# Altium footprint library hi3516dv100.PcbLib: 78 footprints (part 2 of 5)
Each footprint in its own frame and in the unit in brackets; x right, y up, seen from the top. Pads: shape width x height; smd on the part's side, far side on the other; paste and mask are expansions set on the pad; w line width, h text height; cw(c..) or ccw(c..) is an arc to the next point about the centre after c.
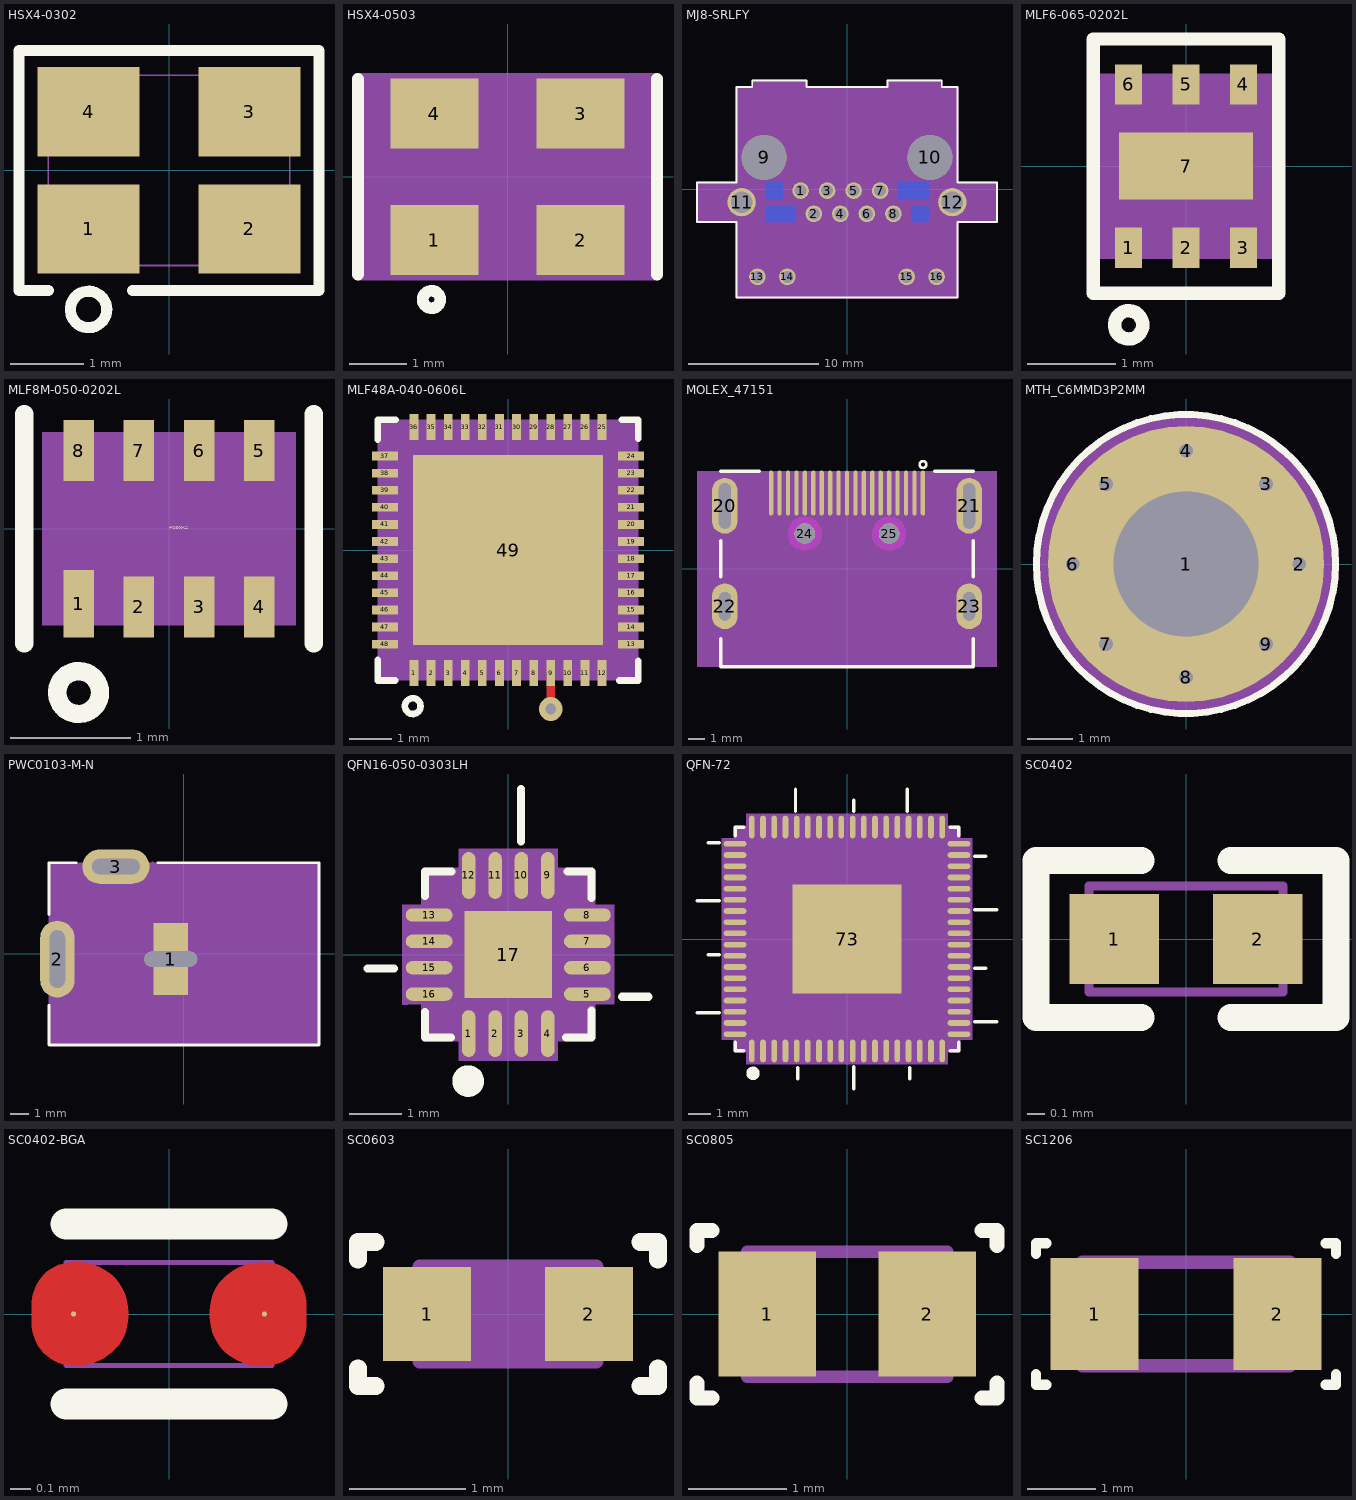
[diagram p1: the footprints below, top view; thin cyan lines are the x and y axes]

## HSX4-0302 [mil] "HSX4-0302"
pads (4):
  rect 55x48 smd: 1(-43.3,-31.5) 2(43.3,-31.5) 3(43.3,31.5) 4(-43.3,31.5)
Top Overlay:
  circle w6: c-43.31,-74.8 r9.81
  lines w6: -65,-64.6 -80.7,-64.6 -80.7,64.6 80.7,64.6 80.7,-64.6 -19.7,-64.6
Mechanical 7:
  lines w1: -65,-51.2 -65,51.2 65,51.2 65,-51.2 -65,-51.2

## HSX4-0503 [mil] "HSX4-0503"
pads (4):
  rect 60x48 smd: 1(-50,-43.31) 2(50,-43.31) 3(50,43.31) 4(-50,43.31)
Top Overlay:
  circle w8: c-52,-84 r6
  lines w8: -102.36,-66.93 -102.36,66.93 ; 102.36,-66.93 102.36,66.93
Mechanical 7:
  region: -102.36,-66.93 102.36,-66.93 102.36,66.93 -102.36,66.93
  lines w8: -102.36,-66.93 -102.36,66.93 102.36,66.93 102.36,-66.93 -102.36,-66.93
Mechanical 15:
  dashed: -102,-66 103,-66 103,67 -102,67
3D body: height 150, standoff 0, extent -102.36,-66.93 102.36,66.93

## MJ8-SRLFY [mil] "MJ8-SRLFY"
pads (16):
  round 50 / inner round 60 / far side round 50 hole 36: 1(-140,-4.84) 2(-100,-74.84) 3(-60,-4.84) 4(-20,-74.84) 5(20,-4.84) 6(60,-74.84) 7(100,-4.84) 8(140,-74.84) 14(-180,-264.84) 15(180,-264.84) 16(270,-264.84)
  round 135 / inner round 60 / far side round 135 hole 135 unplated: 9(-250,95.16) 10(250,95.16)
  round 85 hole 65: 11(-317.5,-39.84) 12(317.5,-39.84)
  round 50 hole 36: 13(-270,-264.84)
Bottom Layer:
  region: -246,20.16 -194,20.16 -194,-29.84 -246,-29.84
  region: -246,-49.84 -154,-49.84 -154,-99.84 -246,-99.84
  region: 154,20.16 246,20.16 246,-29.84 154,-29.84
  region: 194,-49.84 246,-49.84 246,-99.84 194,-99.84
Top Overlay:
  lines w6: -452.17,-99.84 -332.48,-99.84 -332.48,-327.36 332.48,-327.36 332.48,-99.84 452.17,-99.84 452.17,20.16 332.48,20.16 332.48,307.68 285.63,307.68 285.63,327.36 121.85,327.36 121.85,307.68 -121.85,307.68 -121.85,327.36 -285.63,327.36 -285.63,307.68 -332.48,307.68 -332.48,20.16 -452.17,20.16 -452.17,-99.84
Bottom Solder:
  dashed: -249,-46.84 -151,-46.84 -151,-102.84 -249,-102.84
  dashed: -249,23.16 -191,23.16 -191,-32.84 -249,-32.84
  dashed: 151,23.16 249,23.16 249,-32.84 151,-32.84
  dashed: 191,-46.84 249,-46.84 249,-102.84 191,-102.84
Mechanical 7:
  region: 452.17,20.16 452.17,-99.84 332.48,-99.84 332.48,-327.36 -332.48,-327.36 -332.48,-99.84 -452.17,-99.84 -452.17,20.16 -332.48,20.16 -332.48,307.68 -285.63,307.68 -285.63,327.36 -121.85,327.36 -121.85,307.68 121.85,307.68 121.85,327.36 285.63,327.36 285.63,307.68 332.48,307.68 332.48,20.16
  lines w6: -452.17,-99.84 -332.48,-99.84 -332.48,-327.36 332.48,-327.36 332.48,-99.84 452.17,-99.84 452.17,20.16 332.48,20.16 332.48,307.68 285.63,307.68 285.63,327.36 121.85,327.36 121.85,307.68 -121.85,307.68 -121.85,327.36 -285.63,327.36 -285.63,307.68 -332.48,307.68 -332.48,20.16 -452.17,20.16 -452.17,-99.84
Mechanical 12:
  text "15" at 180,-272.84 h10
  text "8" at 140,-78.84 h10
  text "5" at 20,-8.84 h10
  text "6" at 60,-78.84 h10
  text "2" at -100,-78.84 h10
  text "7" at 100,-8.84 h10
  text "4" at -20,-78.84 h10
  text "3" at -60,-8.84 h10
  text "1" at -140,-8.84 h10
  text "14" at -180,-272.84 h10
  text "9" at -250,91.16 h10
  text "10" at 250,87.16 h10
  text "11" at -317.5,-47.84 h10
  text "12" at 317.5,-47.84 h10
  text "13" at -270,-272.84 h10
  text "16" at 270,-272.84 h10
3D body: height 150, standoff 0, extent -452.17,-327.36 452.17,327.36

## MLF6-065-0202L [mil] "MLF6-065-0202L"
pads (7):
  rect 12x18 smd: 1(-25.6,-36.4) 2(0,-36.4) 3(25.6,-36.4) 4(25.6,36.4) 5(0,36.4) 6(-25.6,36.4)
  rect 60x30 smd: 7(0,0)
Top Overlay:
  circle w6: c-25.59,-70.87 r6.29
  lines w6: -41.3,-56.7 41.3,-56.7 41.3,56.7 -41.3,56.7 -41.3,-56.7
Mechanical 5:
  dashed: -41.3,-41.3 41.3,-41.3 41.3,41.3 -41.3,41.3
Mechanical 7:
  region: -41.3,-41.3 41.3,-41.3 41.3,41.3 -41.3,41.3
Mechanical 12:
  text "6" at -25.6,36.4 h0.01
  text "5" at 0,36.4 h0.01
  text "7" at 0,0 h0.01
  text "3" at 25.6,-36.4 h0.01
  text "2" at 0,-36.4 h0.01
  text "1" at -25.6,-36.4 h0.01
  text "4" at 25.6,36.4 h0.01
Mechanical 255:
  lines w3: -25,0 25,0 ; 0,-25 0,25
3D body: height 150, standoff 0, extent -41.3,-41.3 41.3,41.3

## MLF8M-050-0202L [mil] "MLF8M-050-0202L"
pads (8):
  rect 10x22 smd: 1(-29.53,-24.53)
  rect 10x20 smd: 2(-9.84,-25.53) 3(9.84,-25.53) 4(29.53,-25.53) 5(29.53,25.53) 6(9.84,25.53) 7(-9.84,25.53) 8(-29.53,25.53)
Top Overlay:
  circle w6: c-29.53,-53.53 r7
  lines w6: -47.34,-37.5 -47.34,37.5 ; 47.34,-37.5 47.34,37.5
  text "MP2162GQH_Z" at 0,0 h0.01
Mechanical 7:
  region: -41.34,-31.5 -41.34,31.5 41.34,31.5 41.34,-31.5
Mechanical 14:
  text "8" at -29.53,25.53 h0.01
  text "4" at 29.53,-25.53 h0.01
  text "2" at -9.84,-25.53 h0.01
  text "1" at -29.53,-24.53 h0.01
  text "6" at 9.84,25.53 h0.01
  text "3" at 9.84,-25.53 h0.01
  text "5" at 29.53,25.53 h0.01
  text "7" at -9.84,25.53 h0.01
Mechanical 255:
  lines w3: -25,0 25,0 ; 0,-25 0,25
3D body: height 150, standoff 0, extent -41.34,-31.5 41.34,31.5

## MLF48A-040-0606L [mil] "MLF48A-040-0606L"
pads (49):
  rect 8x24 smd: 1(-86.61,-113.36) 2(-70.87,-113.36) 3(-55.12,-113.36) 4(-39.37,-113.36) 5(-23.62,-113.36) 6(-7.87,-113.36) 7(7.87,-113.36) 8(23.62,-113.36) 9(39.37,-113.36) 10(55.12,-113.36) 11(70.87,-113.36) 12(86.61,-113.36) 25(86.61,113.36) 26(70.87,113.36) 27(55.12,113.36) 28(39.37,113.36) 29(23.62,113.36) 30(7.87,113.36) 31(-7.87,113.36) 32(-23.62,113.36) 33(-39.37,113.36) 34(-55.12,113.36) 35(-70.87,113.36) 36(-86.61,113.36)
  rect 24x8 smd: 13(113.36,-86.61) 14(113.36,-70.87) 15(113.36,-55.12) 16(113.36,-39.37) 17(113.36,-23.62) 18(113.36,-7.87) 19(113.36,7.87) 20(113.36,23.62) 21(113.36,39.37) 22(113.36,55.12) 23(113.36,70.87) 24(113.36,86.61) 37(-113.36,86.61) 38(-113.36,70.87) 39(-113.36,55.12) 40(-113.36,39.37) 41(-113.36,23.62) 42(-113.36,7.87) 43(-113.36,-7.87) 44(-113.36,-23.62) 45(-113.36,-39.37) 46(-113.36,-55.12) 47(-113.36,-70.87) 48(-113.36,-86.61)
  rect 175x175 smd: 49(0,0)
via 39.37,-146.36 diameter 22 hole 10
Top Layer:
  lines w8: 39.37,-146.36 39.37,-113.36
Top Overlay:
  circle w6: c-87.76,-143.68 r7.26
  lines w6: -120.08,-101.17 -120.08,-120.08 -103.98,-120.08 ; -120.08,101.81 -120.08,120.08 -103.39,120.08 ; 102.39,-120.08 120.08,-120.08 120.08,-101.73 ; 104.68,120.08 120.08,120.08 120.08,102.38
Mechanical 7:
  region: -120.08,-120.08 120.08,-120.08 120.08,120.08 -120.08,120.08
Mechanical 12:
  text "35" at -70.86,113.36 h0.01
  text "34" at -55.11,113.36 h0.01
  text "45" at -113.35,-39.37 h0.01
  text "44" at -113.35,-23.62 h0.01
  text "37" at -113.35,86.61 h0.01
  text "6" at -7.87,-113.36 h0.01
  text "41" at -113.35,23.62 h0.01
  text "42" at -113.35,7.87 h0.01
  text "36" at -86.6,113.36 h0.01
  text "28" at 39.38,113.36 h0.01
  text "9" at 39.37,-113.36 h0.01
  text "40" at -113.35,39.37 h0.01
  text "3" at -55.12,-113.36 h0.01
  text "16" at 113.37,-39.37 h0.01
  text "14" at 113.37,-70.87 h0.01
  text "32" at -23.61,113.36 h0.01
  text "27" at 55.13,113.36 h0.01
  text "22" at 113.37,55.12 h0.01
  text "26" at 70.88,113.36 h0.01
  text "25" at 86.62,113.36 h0.01
  text "24" at 113.37,86.61 h0.01
  text "23" at 113.37,70.87 h0.01
  text "13" at 113.37,-86.61 h0.01
  text "10" at 55.13,-113.36 h0.01
  text "11" at 70.88,-113.36 h0.01
  text "7" at 7.87,-113.36 h0.01
  text "8" at 23.62,-113.36 h0.01
  text "4" at -39.37,-113.36 h0.01
  text "5" at -23.62,-113.36 h0.01
  text "1" at -86.61,-113.36 h0.01
  text "2" at -70.87,-113.36 h0.01
  text "38" at -113.35,70.87 h0.01
  text "18" at 113.37,-7.87 h0.01
  text "17" at 113.37,-23.62 h0.01
  text "21" at 113.37,39.37 h0.01
  text "15" at 113.37,-55.12 h0.01
  text "39" at -113.35,55.12 h0.01
  text "19" at 113.37,7.87 h0.01
  text "48" at -113.35,-86.61 h0.01
  text "46" at -113.35,-55.12 h0.01
  text "33" at -39.36,113.36 h0.01
  text "12" at 86.62,-113.36 h0.01
  text "20" at 113.37,23.62 h0.01
  text "31" at -7.86,113.36 h0.01
  text "30" at 7.88,113.36 h0.01
  text "47" at -113.35,-70.87 h0.01
  text "43" at -113.35,-7.87 h0.01
  text "49" at 0.01,0 h0.01
  text "29" at 23.63,113.36 h0.01
Mechanical 255:
  lines w3: -25,0 25,0 ; 0,-25 0,25
3D body: height 150, standoff 0, extent -120.08,-120.08 120.08,120.08

## MOLEX_47151 [mil] "MOLEX_47151"
pads (25):
  oval 10x105 smd: 1(177.17,177.5) 2(157.48,177.5) 3(137.8,177.5) 4(118.11,177.5) 5(98.43,177.5) 6(78.74,177.5) 7(59.06,177.5) 8(39.37,177.5) 9(19.69,177.5) 10(0,177.5) 11(-19.69,177.5) 12(-39.37,177.5) 13(-59.06,177.5) 14(-78.74,177.5) 15(-98.43,177.5) 16(-118.11,177.5) 17(-137.8,177.5) 18(-157.48,177.5) 19(-177.17,177.5)
  oval 60x130 hole 28 slot 107 at 90 deg: 20(-285.43,147.48) 21(285.43,147.48)
  oval 60x107 hole 28 slot 67 at 90 deg: 22(-285.43,-87.16) 23(285.43,-87.16)
  round 48 / inner round 60 / far side round 48 hole 48 unplated: 24(-98.43,82.52) 25(98.42,82.52)
Top Overlay:
  circle w6: c177.5,244 r7.83
  lines w6: -295,-228.5 295,-228.5
  lines w7.87: -295,-162.5 -295,-228.5 295,-228.5 295,-162.5 ; -295,-18.41 -295,66.59 ; -295,228.5 -205,228.5 ; 205,228.5 295,228.5 ; 295,-18.41 295,66.59
Mechanical 2:
  lines w6: -272,72 -272,48 -223,-1 ; -259,-141 -246,-141 -222,-165 ; -299.43,-106.66 ccw(c-285.43,-106.66) -285.43,-120.66 ccw(c-285.43,-106.66) -271.43,-106.66 -271.43,-67.66 ccw(c-285.43,-67.66) -285.43,-53.66 ccw(c-285.43,-67.66) -299.43,-67.66 -299.43,-106.66 ; -299.43,107.98 ccw(c-285.43,107.98) -285.43,93.98 ccw(c-285.43,107.98) -271.43,107.98 -271.43,186.98 ccw(c-285.43,186.98) -285.43,200.98 ccw(c-285.43,186.98) -299.43,186.98 -299.43,107.98 ; 271.43,-106.66 ccw(c285.43,-106.66) 285.43,-120.66 ccw(c285.43,-106.66) 299.43,-106.66 299.43,-67.66 ccw(c285.43,-67.66) 285.43,-53.66 ccw(c285.43,-67.66) 271.43,-67.66 271.43,-106.66 ; 271.43,107.98 ccw(c285.43,107.98) 285.43,93.98 ccw(c285.43,107.98) 299.43,107.98 299.43,186.98 ccw(c285.43,186.98) 285.43,200.98 ccw(c285.43,186.98) 271.43,186.98 271.43,107.98
  text "2XOBLONG VIA28X67MIL" at -216,-178.34 h10
  text "2XOBLONG VIA28X107MIL" at -218,-12.34 h10
Mechanical 7:
  region: -350.39,-228.5 350.39,-228.5 350.39,228.5 -350.39,228.5
Mechanical 12:
  text "12" at -39.37,185.5 h10
  text "10" at 0,185.5 h10
  text "3" at 137.8,181.5 h10
  text "1" at 177.17,181.5 h10
  text "6" at 78.74,181.5 h10
  text "4" at 118.11,181.5 h10
  text "9" at 19.69,181.5 h10
  text "7" at 59.06,181.5 h10
  text "13" at -59.06,185.5 h10
  text "24" at -98.43,90.52 h10
  text "14" at -78.74,185.5 h10
  text "25" at 98.42,90.52 h10
  text "16" at -118.11,185.5 h10
  text "15" at -98.43,185.5 h10
  text "19" at -177.17,185.5 h10
  text "21" at 285.43,155.48 h10
  text "23" at 285.43,-79.16 h10
  text "22" at -285.43,-79.16 h10
  text "20" at -285.43,155.48 h10
  text "17" at -137.8,185.5 h10
  text "8" at 39.37,181.5 h10
  text "11" at -19.69,185.5 h10
  text "5" at 98.43,181.5 h10
  text "2" at 157.48,181.5 h10
  text "18" at -157.48,185.5 h10
Multi-Layer keep-out:
  region: 98.42,43.18 108.6,44.52 118.09,48.45 126.24,54.7 132.49,62.85 136.42,72.34 137.76,82.52 136.42,92.7 132.49,102.19 126.24,110.34 118.09,116.59 108.6,120.52 98.42,121.86 88.24,120.52 78.75,116.59 70.6,110.34 64.35,102.19 60.42,92.7 59.08,82.52 60.42,72.34 64.35,62.85 70.6,54.7 78.75,48.45 88.24,44.52
  region: -98.43,43.18 -88.25,44.52 -78.76,48.45 -70.61,54.7 -64.36,62.85 -60.43,72.34 -59.09,82.52 -60.43,92.7 -64.36,102.19 -70.61,110.34 -78.76,116.59 -88.25,120.52 -98.43,121.86 -108.61,120.52 -118.1,116.59 -126.25,110.34 -132.5,102.19 -136.43,92.7 -137.77,82.52 -136.43,72.34 -132.5,62.85 -126.25,54.7 -118.1,48.45 -108.61,44.52
3D body: height 150, standoff 0, extent -350.39,-228.5 350.39,228.5

## MTH_C6MMD3P2MM [mil] "MTH_C6MMD3P2MM"
pads (9):
  round 240 / inner round 142 / far side round 240 hole 126: 1(0,0)
  round 24 hole 12: 2(98.43,0) 3(69.6,69.6) 4(0,98.43) 5(-69.6,69.6) 6(-98.43,0) 7(-69.6,-69.6) 8(0,-98.43) 9(69.6,-69.6)
Top Overlay:
  circle w6: c0,0 r129.92
  text "NC" at -8,0 h10
Mechanical 7:
  region: 130.32,0 128.72,20.39 123.94,40.27 116.12,59.16 105.43,76.6 92.15,92.15 76.6,105.43 59.16,116.12 40.27,123.94 20.39,128.72 0,130.32 -20.39,128.72 -40.27,123.94 -59.16,116.12 -64.98,112.55 -76.6,105.43 -92.15,92.15 -105.43,76.6 -116.12,59.16 -123.94,40.27 -128.72,20.39 -130.32,0 -128.72,-20.39 -123.94,-40.27 -116.12,-59.16 -105.43,-76.6 -92.15,-92.15 -76.6,-105.43 -64.98,-112.55 -59.16,-116.12 -40.27,-123.94 -20.39,-128.72 0,-130.32 20.39,-128.72 40.27,-123.94 59.16,-116.12 76.6,-105.43 92.15,-92.15 105.43,-76.6 116.12,-59.16 123.94,-40.27 128.72,-20.39
Mechanical 12:
  text "4" at -10,98.43 h25
  text "9" at 59.6,-69.6 h25
  text "8" at -10,-98.43 h25
  text "3" at 59.6,69.6 h25
  text "7" at -79.6,-69.6 h25
  text "6" at -108.43,0 h25
  text "5" at -79.6,69.6 h25
  text "2" at 88.43,0 h25
  text "1" at -10,0 h25
Mechanical 13:
  circle w6: c0,0 r129.92
3D body: height 150, standoff 0, extent -130.32,-130.32 130.32,130.32

## PWC0103-M-N [mil] "PWC0103-M-N"
pads (3):
  rect 72x150 / inner oval 72x150 / far side rect 72x150 hole 32 slot 110 at 0 deg: 1(-27.56,-10.82)
  oval 72x160 / inner round 60 / far side oval 72x160 hole 120 slot 32 at 0 deg: 2(-263.78,-10.82)
  oval 140x72 hole 32 slot 100 at 0 deg: 3(-141.73,182.1)
Top Overlay:
  lines w6: -281.5,-106.99 -281.5,-189.95 281.5,-189.95 281.5,189.96 -54.36,189.96 ; -281.5,81.77 -281.5,189.96 -224.59,189.96
Mechanical 2:
  lines w6: -248.62,-92.37 -251.89,-69.06 ; -235.3,-96.79 -251.89,-69.06 ; -231.9,-83.12 -251.89,-69.06 ; -65.13,189.39 -91.06,179.26 ; -64.59,169.41 -91.06,179.26 ; -55.65,179.26 -91.06,179.26 ; 18.05,5.62 -7.87,-4.51 ; 18.59,-14.36 -7.87,-4.51 ; 27.53,-4.51 -7.87,-4.51 ; -279.78,-54.82 ccw(c-263.78,-54.82) -263.78,-70.82 ccw(c-263.78,-54.82) -247.78,-54.82 -247.78,33.18 ccw(c-263.78,33.18) -263.78,49.18 ccw(c-263.78,33.18) -279.78,33.18 -279.78,-54.82 ; -191.73,182.1 ccw(c-175.73,182.1) -175.73,166.1 -107.73,166.1 ccw(c-107.73,182.1) -91.73,182.1 ccw(c-107.73,182.1) -107.73,198.1 -175.73,198.1 ccw(c-175.73,182.1) -191.73,182.1 ; -43.56,-49.82 ccw(c-27.56,-49.82) -27.56,-65.82 ccw(c-27.56,-49.82) -11.56,-49.82 -11.56,28.18 ccw(c-27.56,28.18) -27.56,44.18 ccw(c-27.56,28.18) -43.56,28.18 -43.56,-49.82
  text "OBLONG VIA 32x120MIL" at -268.06,-129.16 h25
Mechanical 7:
  region: -281.5,-189.95 281.5,-189.95 281.5,189.96 -281.5,189.96
Mechanical 12:
  text "2" at -273.78,-10.82 h25
  text "3" at -151.73,182.1 h25
  text "1" at -37.56,-10.82 h25
Mechanical 255:
  lines w3: -52.56,-10.82 -2.56,-10.82 ; -27.56,-35.82 -27.56,14.18
3D body: height 150, standoff 0, extent -281.5,-189.95 281.5,189.96

## QFN16-050-0303LH [mil] "QFN16-050-0303LH"
pads (17):
  oval 10x35 smd: 1(-29.53,-59.06) 2(-9.84,-59.06) 3(9.84,-59.06) 4(29.53,-59.06) 9(29.53,59.06) 10(9.84,59.06) 11(-9.84,59.06) 12(-29.53,59.06)
  oval 35x10 smd: 5(59.06,-29.53) 6(59.06,-9.84) 7(59.06,9.84) 8(59.06,29.53) 13(-59.06,29.53) 14(-59.06,9.84) 15(-59.06,-9.84) 16(-59.06,-29.53)
  rect 65x65 smd: 17(0,0)
Top Overlay:
  circle w11.81: c-29.92,-94.49 r5.9
  lines w6: -105.12,-10.24 -85.43,-10.24 ; -62.01,-42.8 -62.01,-62.01 -42.84,-62.01 ; -62.01,43.78 -62.01,62.01 -42.52,62.01 ; 9.45,84.25 9.45,123.62 ; 43.2,-62.01 62.01,-62.01 62.01,-41.64 ; 44.31,62.01 62.01,62.01 62.01,42.24 ; 85.04,-31.5 104.72,-31.5
Mechanical 7:
  region: -75.2,-37.4 -63.78,-37.4 -61.42,-37.4 -61.42,-61.42 -37.01,-61.42 -37.01,-63.78 -37.01,-77.95 -37.01,-79.13 37.01,-79.13 37.01,-72.44 37.01,-63.78 63.78,-63.78 63.78,-37.01 77.36,-37.01 79.13,-37.01 79.13,37.01 77.36,37.01 61.42,37.01 61.42,61.02 37.01,61.02 37.01,64.17 37.01,77.95 37.01,79.13 -37.01,79.13 -37.01,67.72 -37.01,63.78 -37.01,61.42 -61.42,61.42 -61.42,37.01 -63.78,37.01 -77.36,37.01 -79.13,37.01 -79.13,-37.4
Mechanical 12:
  text "3" at 13.84,-59.06 h10
  text "5" at 63.06,-29.53 h10
  text "2" at -5.84,-59.06 h10
  text "16" at -51.06,-29.53 h10
  text "12" at -21.53,59.06 h10
  text "9" at 33.53,59.06 h10
  text "1" at -25.53,-59.06 h10
  text "4" at 33.53,-59.06 h10
  text "6" at 63.06,-9.84 h10
  text "8" at 63.06,29.53 h10
  text "7" at 63.06,9.84 h10
  text "13" at -51.06,29.53 h10
  text "14" at -51.06,9.84 h10
  text "17" at 8,0 h10
  text "11" at -1.84,59.06 h10
  text "10" at 17.84,59.06 h10
  text "15" at -51.06,-9.84 h10
Mechanical 13:
  lines w6: -62.01,-62.01 62.01,-62.01 62.01,62.01 -62.01,62.01 -62.01,-62.01
3D body: height 150, standoff 0, extent -79.13,-79.13 79.13,79.13

## QFN-72 [mil] "QFN-72"
pads (73):
  oval 10x40 smd: 1(-167.32,-196.85) 2(-147.64,-196.85) 3(-127.95,-196.85) 4(-108.27,-196.85) 5(-88.58,-196.85) 6(-68.9,-196.85) 7(-49.21,-196.85) 8(-29.53,-196.85) 9(-9.84,-196.85) 10(9.84,-196.85) 11(29.53,-196.85) 12(49.21,-196.85) 13(68.9,-196.85) 14(88.58,-196.85) 15(108.27,-196.85) 16(127.95,-196.85) 17(147.64,-196.85) 18(167.32,-196.85) 37(167.32,196.85) 38(147.64,196.85) 39(127.95,196.85) 40(108.27,196.85) 41(88.58,196.85) 42(68.9,196.85) 43(49.21,196.85) 44(29.53,196.85) 45(9.84,196.85) 46(-9.84,196.85) 47(-29.53,196.85) 48(-49.21,196.85) 49(-68.9,196.85) 50(-88.58,196.85) 51(-108.27,196.85) 52(-127.95,196.85) 53(-147.64,196.85) 54(-167.32,196.85)
  oval 40x10 smd: 19(196.85,-167.32) 20(196.85,-147.64) 21(196.85,-127.95) 22(196.85,-108.27) 23(196.85,-88.58) 24(196.85,-68.9) 25(196.85,-49.21) 26(196.85,-29.53) 27(196.85,-9.84) 28(196.85,9.84) 29(196.85,29.53) 30(196.85,49.21) 31(196.85,68.9) 32(196.85,88.58) 33(196.85,108.27) 34(196.85,127.95) 35(196.85,147.64) 36(196.85,167.32) 55(-196.85,167.32) 56(-196.85,147.64) 57(-196.85,127.95) 58(-196.85,108.27) 59(-196.85,88.58) 60(-196.85,68.9) 61(-196.85,49.21) 62(-196.85,29.53) 63(-196.85,9.84) 64(-196.85,-9.84) 65(-196.85,-29.53) 66(-196.85,-49.21) 67(-196.85,-68.9) 68(-196.85,-88.58) 69(-196.85,-108.27) 70(-196.85,-127.95) 71(-196.85,-147.64) 72(-196.85,-167.32)
  rect 192x192 smd: 73(0,0)
Top Overlay:
  circle w11.81: c-165.35,-236.22 r5.9
  lines w6: -263.78,-129.92 -224.41,-129.92 ; -263.78,66.93 -224.41,66.93 ; -244.09,-27.56 -224.41,-27.56 ; -244.09,169.29 -224.41,169.29 ; -196.85,-181.1 -196.85,-196.85 -181.1,-196.85 ; -196.85,181.1 -196.85,196.85 -181.1,196.85 ; -90.55,224.41 -90.55,263.78 ; -86.61,-246.06 -86.61,-226.38 ; 11.81,-263.78 11.81,-224.41 ; 11.81,224.41 11.81,244.09 ; 106.3,224.41 106.3,263.78 ; 110.24,-246.06 110.24,-226.38 ; 181.1,-196.85 196.85,-196.85 196.85,-181.1 ; 181.1,196.85 196.85,196.85 196.85,181.1 ; 224.41,-145.67 263.78,-145.67 ; 224.41,-51.18 244.09,-51.18 ; 224.41,51.18 263.78,51.18 ; 224.41,145.67 244.09,145.67
Mechanical 7:
  region: -196.85,196.85 -196.85,177.17 -220.47,177.17 -220.47,-177.17 -196.85,-177.17 -196.85,-196.85 -177.17,-196.85 -177.17,-220.47 177.17,-220.47 177.17,-196.85 196.85,-196.85 196.85,-177.17 220.47,-177.17 220.47,177.17 196.85,177.17 196.85,196.85 177.17,196.85 177.17,220.47 -177.17,220.47 -177.17,196.85
Mechanical 12:
  text "18" at 175.32,-196.85 h10
  text "19" at 204.85,-167.32 h10
  text "20" at 204.85,-147.64 h10
  text "9" at -5.84,-196.85 h10
  text "11" at 37.53,-196.85 h10
  text "13" at 76.9,-196.85 h10
  text "14" at 96.58,-196.85 h10
  text "15" at 116.27,-196.85 h10
  text "16" at 135.95,-196.85 h10
  text "17" at 155.64,-196.85 h10
  text "23" at 204.85,-88.58 h10
  text "4" at -104.27,-196.85 h10
  text "6" at -64.9,-196.85 h10
  text "7" at -45.21,-196.85 h10
  text "8" at -25.53,-196.85 h10
  text "10" at 17.84,-196.85 h10
  text "22" at 204.85,-108.27 h10
  text "48" at -41.21,196.85 h10
  text "49" at -60.9,196.85 h10
  text "58" at -188.85,108.27 h10
  text "59" at -188.85,88.58 h10
  text "67" at -188.85,-68.9 h10
  text "68" at -188.85,-88.58 h10
  text "64" at -188.85,-9.84 h10
  text "65" at -188.85,-29.53 h10
  text "61" at -188.85,49.21 h10
  text "62" at -188.85,29.53 h10
  text "21" at 204.85,-127.95 h10
  text "46" at -1.84,196.85 h10
  text "3" at -123.95,-196.85 h10
  text "71" at -188.85,-147.64 h10
  text "53" at -139.64,196.85 h10
  text "47" at -21.53,196.85 h10
  text "42" at 76.9,196.85 h10
  text "26" at 204.85,-29.53 h10
  text "5" at -84.58,-196.85 h10
  text "12" at 57.21,-196.85 h10
  text "66" at -188.85,-49.21 h10
  text "60" at -188.85,68.9 h10
  text "2" at -143.64,-196.85 h10
  text "1" at -163.32,-196.85 h10
  text "51" at -100.27,196.85 h10
  text "72" at -188.85,-167.32 h10
  text "55" at -188.85,167.32 h10
  text "70" at -188.85,-127.95 h10
  text "54" at -159.32,196.85 h10
  text "56" at -188.85,147.64 h10
  text "69" at -188.85,-108.27 h10
  text "50" at -80.58,196.85 h10
  text "52" at -119.95,196.85 h10
  text "44" at 37.53,196.85 h10
  text "45" at 17.84,196.85 h10
  text "24" at 204.85,-68.9 h10
  text "25" at 204.85,-49.21 h10
  text "27" at 204.85,-9.84 h10
  text "28" at 204.85,9.84 h10
  text "29" at 204.85,29.53 h10
  text "30" at 204.85,49.21 h10
  text "37" at 175.32,196.85 h10
  text "38" at 155.64,196.85 h10
  text "39" at 135.95,196.85 h10
  text "40" at 116.27,196.85 h10
  text "41" at 96.58,196.85 h10
  text "31" at 204.85,68.9 h10
  text "32" at 204.85,88.58 h10
  text "33" at 204.85,108.27 h10
  text "34" at 204.85,127.95 h10
  text "35" at 204.85,147.64 h10
  text "36" at 204.85,167.32 h10
  text "57" at -188.85,127.95 h10
  text "43" at 57.21,196.85 h10
  text "73" at 8,0 h10
  text "63" at -188.85,9.84 h10
Mechanical 13:
  lines w6: -196.85,-196.85 196.85,-196.85 196.85,196.85 -196.85,196.85 -196.85,-196.85
3D body: height 150, standoff 0, extent -220.47,-220.47 220.47,220.47

## SC0402 [mil] "SC0402"
pads (2):
  rect 20x20 smd: 1(-16,0) 2(16,0)
Top Overlay:
  lines w6: -10,-17.5 -33.5,-17.5 -33.5,17.5 -10,17.5 ; 10,-17.5 33.5,-17.5 33.5,17.5 10,17.5
Top Paste:
  dashed: -26,10 -6,10 -9,0 -6,-10 -26,-10
  dashed: 26,-10 6,-10 9,0 6,10 26,10
Mechanical 7:
  lines w1: -21.65,-11.81 21.65,-11.81 21.65,11.81 -21.65,11.81 -21.65,-11.81
  lines w2: -21.65,-11.81 -21.65,11.81 21.65,11.81 21.65,-11.81 -21.65,-11.81
Mechanical 23:
  lines w1: -21.65,-11.81 21.65,-11.81 21.65,11.81 -21.65,11.81 -21.65,-11.81

## SC0402-BGA [mil] "SC0402-BGA"
pads (2):
  oct 1x1 smd: 1(-18.5,0) 2(18.5,0)
Top Layer:
  region: 19,9.99 18.05,10.04 17.11,9.99 16.17,9.87 15.24,9.66 14.34,9.36 13.47,8.99 12.64,8.54 11.85,8.02 11.11,7.42 10.42,6.77 9.8,6.05 9.25,5.28 8.8,4.38 8.44,3.44 8.17,2.47 7.98,1.48 7.89,0.48 7.89,-0.52 7.98,-1.52 8.17,-2.51 8.44,-3.48 8.8,-4.42 9.25,-5.32 9.78,-6.1 10.38,-6.83 11.05,-7.5 11.79,-8.1 12.57,-8.63 13.41,-9.08 14.28,-9.45 15.18,-9.73 16.11,-9.92 17.05,-10.02 18,-10.03 18.86,-10.04 19.71,-9.95 20.55,-9.78 21.36,-9.52 22.15,-9.17 22.89,-8.75 23.58,-8.25 24.22,-7.68 24.8,-7.04 25.3,-6.35 25.73,-5.61 26.08,-4.83 26.35,-4.01 26.52,-3.17 26.61,-2.32 26.61,2.27 26.53,3.11 26.35,3.94 26.09,4.75 25.75,5.52 25.33,6.26 24.84,6.95 24.28,7.58 23.65,8.15 22.97,8.65 22.24,9.08 21.47,9.44 20.67,9.71 19.84,9.89
  region: 19,9.99 18.05,10.04 17.11,9.99 16.17,9.87 15.24,9.66 14.34,9.36 13.47,8.99 12.64,8.54 11.85,8.02 11.11,7.42 10.42,6.77 9.8,6.05 9.25,5.28 8.8,4.38 8.44,3.44 8.17,2.47 7.98,1.48 7.89,0.48 7.89,-0.52 7.98,-1.52 8.17,-2.51 8.44,-3.48 8.8,-4.42 9.25,-5.32 9.78,-6.1 10.38,-6.83 11.05,-7.5 11.79,-8.1 12.57,-8.63 13.41,-9.08 14.28,-9.45 15.18,-9.73 16.11,-9.92 17.05,-10.02 18,-10.03 18.86,-10.04 19.71,-9.95 20.55,-9.78 21.36,-9.52 22.15,-9.17 22.89,-8.75 23.58,-8.25 24.22,-7.68 24.8,-7.04 25.3,-6.35 25.73,-5.61 26.08,-4.83 26.35,-4.01 26.52,-3.17 26.61,-2.32 26.61,2.27 26.53,3.11 26.35,3.94 26.09,4.75 25.75,5.52 25.33,6.26 24.84,6.95 24.28,7.58 23.65,8.15 22.97,8.65 22.24,9.08 21.47,9.44 20.67,9.71 19.84,9.89
  region: -19,-9.99 -18.05,-10.04 -17.11,-9.99 -16.17,-9.87 -15.24,-9.66 -14.34,-9.36 -13.47,-8.99 -12.64,-8.54 -11.85,-8.02 -11.11,-7.42 -10.42,-6.77 -9.8,-6.05 -9.25,-5.28 -8.8,-4.38 -8.44,-3.44 -8.17,-2.47 -7.98,-1.48 -7.89,-0.48 -7.89,0.52 -7.98,1.52 -8.17,2.51 -8.44,3.48 -8.8,4.42 -9.25,5.32 -9.78,6.1 -10.38,6.83 -11.05,7.5 -11.79,8.1 -12.57,8.63 -13.41,9.08 -14.28,9.45 -15.18,9.73 -16.11,9.92 -17.05,10.02 -18,10.03 -18.86,10.04 -19.71,9.95 -20.55,9.78 -21.36,9.52 -22.15,9.17 -22.89,8.75 -23.58,8.25 -24.22,7.68 -24.8,7.04 -25.3,6.35 -25.73,5.61 -26.08,4.83 -26.35,4.01 -26.52,3.17 -26.61,2.32 -26.61,-2.27 -26.53,-3.11 -26.35,-3.94 -26.09,-4.75 -25.75,-5.52 -25.33,-6.26 -24.84,-6.95 -24.28,-7.58 -23.65,-8.15 -22.97,-8.65 -22.24,-9.08 -21.47,-9.44 -20.67,-9.71 -19.84,-9.89
  region: -19,-9.99 -18.05,-10.04 -17.11,-9.99 -16.17,-9.87 -15.24,-9.66 -14.34,-9.36 -13.47,-8.99 -12.64,-8.54 -11.85,-8.02 -11.11,-7.42 -10.42,-6.77 -9.8,-6.05 -9.25,-5.28 -8.8,-4.38 -8.44,-3.44 -8.17,-2.47 -7.98,-1.48 -7.89,-0.48 -7.89,0.52 -7.98,1.52 -8.17,2.51 -8.44,3.48 -8.8,4.42 -9.25,5.32 -9.78,6.1 -10.38,6.83 -11.05,7.5 -11.79,8.1 -12.57,8.63 -13.41,9.08 -14.28,9.45 -15.18,9.73 -16.11,9.92 -17.05,10.02 -18,10.03 -18.86,10.04 -19.71,9.95 -20.55,9.78 -21.36,9.52 -22.15,9.17 -22.89,8.75 -23.58,8.25 -24.22,7.68 -24.8,7.04 -25.3,6.35 -25.73,5.61 -26.08,4.83 -26.35,4.01 -26.52,3.17 -26.61,2.32 -26.61,-2.27 -26.53,-3.11 -26.35,-3.94 -26.09,-4.75 -25.75,-5.52 -25.33,-6.26 -24.84,-6.95 -24.28,-7.58 -23.65,-8.15 -22.97,-8.65 -22.24,-9.08 -21.47,-9.44 -20.67,-9.71 -19.84,-9.89
Top Overlay:
  lines w6: -20,-17.5 20,-17.5 ; -20,17.5 20,17.5
Top Paste:
  drawing of 4 lines, arcs and shapes, not listed
Top Solder:
  drawing of 4 lines, arcs and shapes, not listed
Mechanical 7:
  lines w1: -20,-10 -20,10 ; -20,-10 20,-10 ; -20,-10 -20,10 ; -20,-10 20,-10 ; -20,10 20,10 ; -20,10 20,10 ; 20,-10 20,10 ; 20,-10 20,10
Mechanical 19:
  lines w1: -20,-10 -20,10 20,10 20,-10 -20,-10

## SC0603 [mil] "SC0603"
pads (2):
  rect 30x32 smd: 1(-27.5,0) 2(27.5,0)
Top Overlay:
  lines w6: -51,-18.5 -51,-24.5 -45,-24.5 ; -51,18.5 -51,24.5 -45,24.5 ; 45,-24.5 51,-24.5 51,-18.5 ; 45,24.5 51,24.5 51,18.5
Mechanical 8:
  region: -30,-16 -30,16 30,16 30,-16
  lines w5: -30,-16 -30,16 30,16 30,-16 -30,-16
3D body: height 150, standoff 0, extent -30,-16 30,16

## SC0805 [mil] "SC0805"
pads (2):
  rect 39x50 smd: 1(-32,0) 2(32,0)
Top Overlay:
  lines w6: -60,-27.5 -60,-33.5 -54,-33.5 ; -60,27.5 -60,33.5 -54,33.5 ; 54,-33.5 60,-33.5 60,-27.5 ; 54,33.5 60,33.5 60,27.5
Mechanical 7:
  lines w1: -40,-25 40,-25 40,25 -40,25 -40,-25
  lines w5: -40,-25 40,-25 40,25 -40,25 -40,-25
Mechanical 12:
  text "1" at -36,0 h10
  text "2" at 28,0 h10

## SC1206 [mil] "SC1206"
pads (2):
  rect 51x65 smd: 1(-53,0) 2(53,0)
Top Overlay:
  lines w6: -87,-35 -87,-41 -81,-41 ; -87,35 -87,41 -81,41 ; 81,-41 87,-41 87,-35 ; 81,41 87,41 87,35
Mechanical 7:
  lines w1: -60,-30 -60,30 60,30 60,-30 -60,-30
  lines w8: -60,-30 60,-30 60,30 -60,30
Mechanical 23:
  lines w1: -60,-30 -60,30 60,30 60,-30 -60,-30